# Altium footprint library 1_1740194_2.PcbLib: 1 footprints
Each footprint in its own frame and in the unit in brackets; x right, y up, seen from the top. Pads: shape width x height; smd on the part's side, far side on the other; paste and mask are expansions set on the pad; w line width, h text height; cw(c..) or ccw(c..) is an arc to the next point about the centre after c.
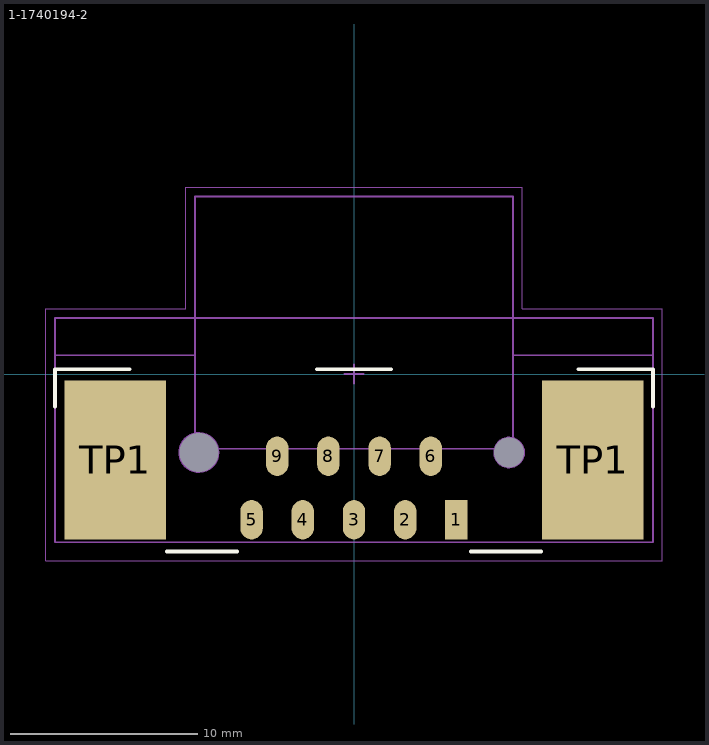
[diagram p0: the footprint, top view; thin cyan lines are the x and y axes]

## 1-1740194-2 [mm]
height 12.5
pads (13):
  rect 1.2x2.1 smd: 1(5.48,-7.8)
  oval 1.2x2.1 smd: 2(2.74,-7.8) 3(0,-7.8) 4(-2.74,-7.8) 5(-5.48,-7.8) 6(4.11,-4.4) 7(1.37,-4.4) 8(-1.37,-4.4) 9(-4.11,-4.4)
  rect 5.45x8.5 smd: TP1(-12.775,-4.6) TP1(12.775,-4.6)
  round 0 hole 2.1: ""(-8.3,-4.2)
  round 0 hole 1.6: ""(8.3,-4.2)
Top Overlay:
  lines w0.2: -16,-1.75 -16,0.25 -12,0.25 ; -10,-9.5 -6.25,-9.5 ; -2,0.25 0,0.25 2,0.25 ; 6.25,-9.5 10,-9.5 ; 12,0.25 16,0.25 16,-1.75
Top Comment:
  text ".Comment" at 1,10.5 h1.2
Top Designator:
  text ".Designator" at 0,10.5 h1.2
Top Component Outline:
  circle w0.1: c-8.3,-4.2 r1.05
  circle w0.1: c8.3,-4.2 r0.8
  lines w0.1: -16,1 -8.5,1 ; 16,1 8.5,1 ; -8.5,1 -8.5,-4 8.5,-4 8.5,1 ; -8.5,1 -8.5,3 -8.5,9.5 8.5,9.5 8.5,3 8.5,1 ; -16,-9 16,-9 16,-6.5 16,3 -16,3 -16,-6.5 -16,-9
Top Courtyard:
  lines w0.05: -16.5,-10 16.5,-10 16.5,3.5 9,3.5 9,10 -7.5,10 -9,10 -9,3.5 -16.5,3.5 -16.5,-10
  lines w0.1: -0.5,0 0.5,0 ; 0,-0.5 0,0 0,0.5
3D body "c-1-1740194-2-d-3d.stp": height 9.87, standoff -2.63, extent -15.4,-8.5 15.4,9